# Altium schematic symbol library Esquematicos.SCHLIB: 8 symbols
Pins are listed as number, name and electrical type; pins without a type are passive.

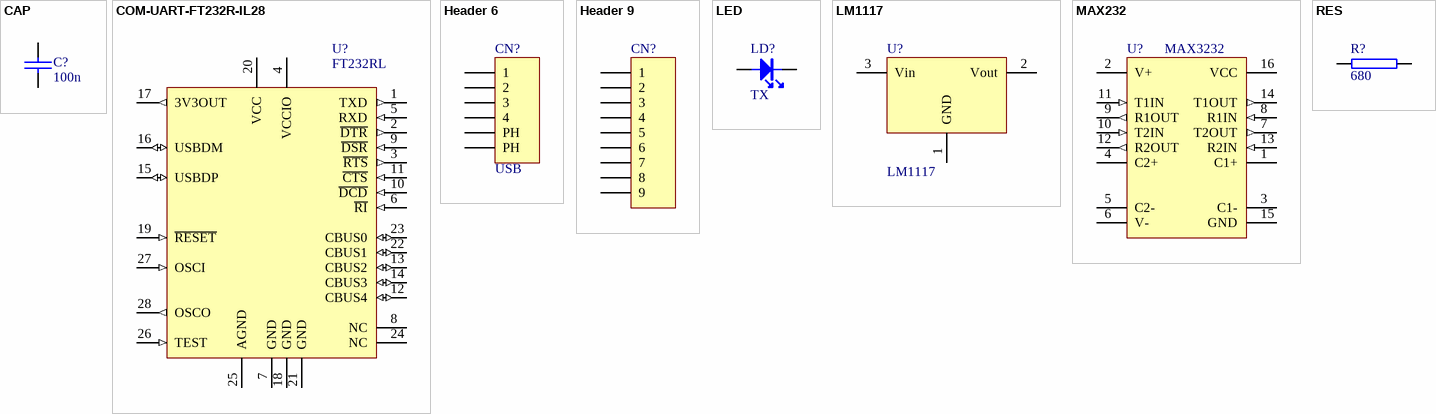
[diagram p0: symbols CAP to RES]

## CAP
designator C?, comment 100n
CAPACITOR SMD 0805 100NF/50V X7R; Meu PN: 10.10.104
footprint 0805C
pins: 1, 2

## COM-UART-FT232R-IL28
designator U?, comment FT232RL
USB UART FT232RL, SSOP-28, Tray; Meu PN: 10.13.232
footprint SSOP28-175-0.64
pins: 1 TXD (out), 2 ~{DTR} (out), 3 ~{RTS} (out), 4 VCCIO (power), 5 RXD (in), 6 ~{RI} (in), 7 GND (power), 8 NC, 9 ~{DSR} (in), 10 ~{DCD} (in), 11 ~{CTS} (in), 12 CBUS4 (io), 13 CBUS2 (io), 14 CBUS3 (io), 15 USBDP (io), 16 USBDM (io), 17 3V3OUT (out), 18 GND (power), 19 ~{RESET} (in), 20 VCC (power), 21 GND (power), 22 CBUS1 (io), 23 CBUS0 (io), 24 NC, 25 AGND (power), 26 TEST (in), 27 OSCI (in), 28 OSCO (out)

## Header 6
designator CN?, comment USB
Header, 6-Pin; Meu PN: 11.10.001
footprint USB-B 90 (Conector USB fêmea 90°)
pins: 1, 2, 3, 4, PH2 PH, PH3 PH

## Header 9
designator CN?, comment DB9M  (value not drawn)  (no BOM)
Espera para DB9 M
footprint BARRA1X9 (ESPERA DB9)
pins: 1, 2, 3, 4, 5, 6, 7, 8, 9

## LED
designator LD?, comment Funcao: TX  (hidden comment: RED)
LED 0805 VERMELHO; Meu PN: 10.11.001
footprint 0805L (LED 3 mm redondo)
pins: 1 K, 2 A

## LM1117
designator U?
REGULADOR LINEAR SMD LM1117MPX-3.3; Meu PN: 10.13.117
footprint TO263
footprint SOT223
footprint TO220/123V
pins: 1 GND (power), 2 Vout (power), 3 Vin (power)

## MAX232
designator U?, comment MAX3232
CI SMD MAX3232 SO16 NARROW; Meu PN: 10.13.323
footprint SOL16-WIDE-NARROW
footprint SO16
pins: 1 C1+, 2 V+ (power), 3 C1-, 4 C2+, 5 C2-, 6 V- (power), 7 T2OUT (out), 8 R1IN (in), 9 R1OUT (out), 10 T2IN (in), 11 T1IN (in), 12 R2OUT (out), 13 R2IN (in), 14 T1OUT (out), 15 GND (power), 16 VCC (power)

## RES
designator R?, comment 680
RESISTOR SMD 0805 680 OHM; Meu PN: 10.12.681
footprint 0805R (Resistor)
pins: 1, 2